# Altium footprint library Transistors$.PcbLib: 9 footprints
Each footprint in its own frame and in the unit in brackets; x right, y up, seen from the top. Pads: shape width x height; smd on the part's side, far side on the other; paste and mask are expansions set on the pad; w line width, h text height; cw(c..) or ccw(c..) is an arc to the next point about the centre after c.
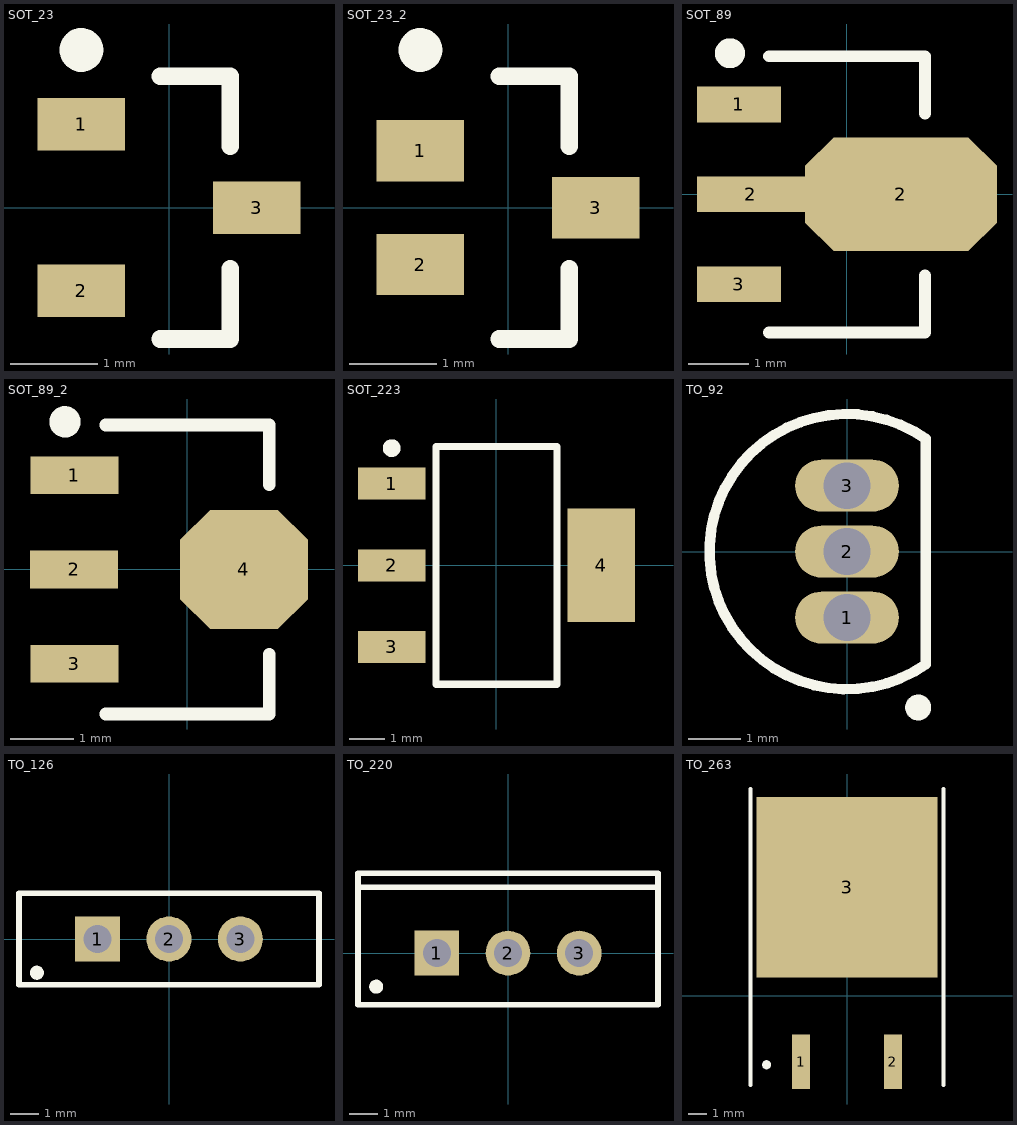
[diagram p0: the footprints below, top view; thin cyan lines are the x and y axes]

## SOT_23 [mm]
height 1.1
pads (3):
  rect 1x0.6 smd: 1(-1,0.95) 2(-1,-0.95) 3(1,0)
Top Overlay:
  circle w0.25: c-1,1.8 r0.125
  lines w0.2: -0.1,-1.5 0.7,-1.5 0.7,-0.7 ; -0.1,1.5 0.7,1.5 0.7,0.7
3D body: height 1.1, standoff 0, extent -0.7,-1.5 0.7,1.5

## SOT_23_2 [mm]
height 1.1
pads (3):
  rect 1x0.7 smd: 1(-1,0.65) 2(-1,-0.65) 3(1,0)
Top Overlay:
  circle w0.25: c-1,1.8 r0.125
  lines w0.2: -0.1,-1.5 0.7,-1.5 0.7,-0.7 ; -0.1,1.5 0.7,1.5 0.7,0.7
3D body: height 1.1, standoff 0, extent -0.7,-1.5 0.7,1.5

## SOT_89 [mm]
height 1.6
pads (4):
  rect 1.4x0.6 smd: 1(-1.8,1.5) 3(-1.8,-1.5)
  rect 1.8x0.6 smd: 2(-1.6,0)
  oct 3.2x1.9 smd: 2(0.9,0)
Top Overlay:
  circle w0.25: c-1.95,2.35 r0.125
  lines w0.2: -1.3,-2.3 1.3,-2.3 1.3,-1.35 ; -1.3,2.3 1.3,2.3 1.3,1.35
3D body: height 1.6, standoff 0, extent -1.3,-2.3 1.3,2.3

## SOT_89_2 [mm]
height 1.6
pads (4):
  rect 1.4x0.6 smd: 1(-1.8,1.5) 2(-1.803,0) 3(-1.8,-1.5)
  oct 2.032x1.9 smd: 4(0.9,0)
Top Overlay:
  circle w0.25: c-1.95,2.35 r0.125
  lines w0.2: -1.3,-2.3 1.3,-2.3 1.3,-1.35 ; -1.3,2.3 1.3,2.3 1.3,1.35
3D body: height 1.6, standoff 0, extent -1.3,-2.3 1.3,2.3

## SOT_223 [mm]
height 1.8
pads (4):
  rect 1.9x0.9 smd: 1(-2.95,2.3) 2(-2.95,0) 3(-2.95,-2.3)
  rect 1.9x3.2 smd: 4(2.95,0)
Top Overlay:
  circle w0.25: c-2.95,3.3 r0.125
  lines w0.2: -1.7,-3.35 1.7,-3.35 1.7,3.35 -1.7,3.35 -1.7,-3.35
3D body: height 1.8, standoff 0, extent -1.85,-3.35 1.85,3.35

## TO_92 [mm]
height 6
pads (3):
  oval 2x1 hole 0.9: 1(0,-1.27) 2(0,0) 3(0,1.27)
Top Overlay:
  circle w0.25: c1.371,-3.003 r0.125
  lines w0.2: 1.52,-2.171 cw(c0,0) 1.52,2.171 1.52,-2.171
3D body: height 5.33, standoff 0, extent -2.651,-2.661 1.52,2.661

## TO_126 [mm]
height 14
pads (3):
  rect 1.6x1.6 hole 1: 1(-2.54,0)
  round 1.6 hole 1: 2(0,0) 3(2.54,0)
Top Overlay:
  circle w0.25: c-4.7,-1.2 r0.125
  lines w0.2: -5.334,-1.626 -5.334,1.626 5.334,1.626 5.334,-1.626 -5.334,-1.626
3D body: height 4, standoff -1, extent 2.124,-0.381 2.921,0.417
3D body: height 4, standoff -1, extent -0.416,-0.381 0.381,0.417
3D body: height 4, standoff -1, extent -2.956,-0.381 -2.159,0.417
3D body: height 12.9, standoff 4, extent -5.4,-1.651 5.4,1.651

## TO_220 [mm]
height 21
pads (3):
  rect 1.6x1.6 hole 1: 1(-2.54,0)
  round 1.6 hole 1: 2(0,0) 3(2.54,0)
Top Overlay:
  circle w0.25: c-4.7,-1.2 r0.125
  lines w0.2: -5.35,2.35 5.35,2.35 ; -5.35,-1.85 -5.35,2.85 5.35,2.85 5.35,-1.85 -5.35,-1.85
3D body: height 4, standoff -1, extent -2.956,-0.381 -2.159,0.417
3D body: height 4, standoff -1, extent -0.416,-0.381 0.381,0.417
3D body: height 4, standoff -1, extent 2.124,-0.381 2.921,0.417
3D body: height 12.9, standoff 4, extent -5.4,-1.9 5.4,2.9
3D body: height 19.3, standoff 12.9, extent -5.349,2.351 5.349,2.849

## TO_263 [mm]
height 5
pads (3):
  rect 1x3 smd: 1(-2.54,-3.65) 2(2.54,-3.65)
  rect 10x10 smd: 3(0,6)
Top Overlay:
  circle w0.25: c-4.443,-3.81 r0.125
  lines w0.2: -5.334,-4.953 -5.334,11.43 ; 5.334,-4.953 5.334,11.43
3D body: height 5, standoff 0, extent -5.08,1.016 5.08,11.43